# Altium footprint library jonnew.PcbLib: 5 footprints
Each footprint in its own frame and in the unit in brackets; x right, y up, seen from the top. Pads: shape width x height; smd on the part's side, far side on the other; paste and mask are expansions set on the pad; w line width, h text height; cw(c..) or ccw(c..) is an arc to the next point about the centre after c.
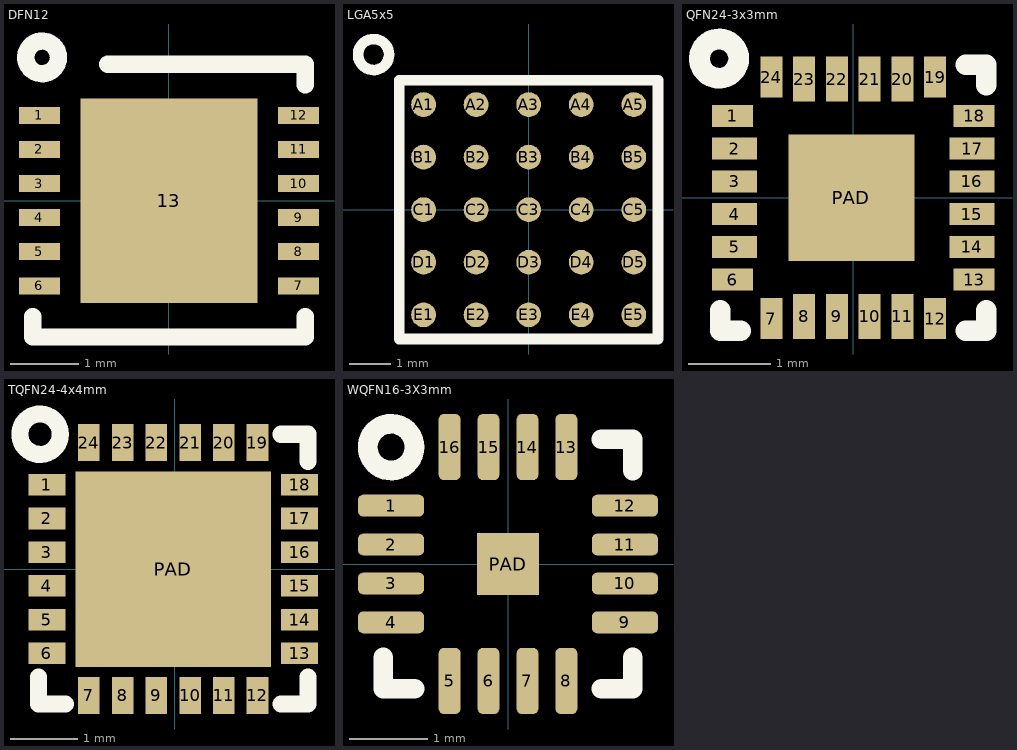
[diagram p0: the footprints below, top view; thin cyan lines are the x and y axes]

## DFN12 [mm]
height 0.8
pads (13):
  rect 0.6x0.25 smd: 1(-1.9,1.25) 2(-1.9,0.75) 3(-1.9,0.25) 4(-1.9,-0.25) 5(-1.9,-0.75) 6(-1.9,-1.25) 7(1.9,-1.25) 8(1.9,-0.75) 9(1.9,-0.25) 10(1.9,0.25) 11(1.9,0.75) 12(1.9,1.25)
  rect 2.6x3 smd: 13(0,0)
Top Overlay:
  circle w0.254: c-1.861,2.1 r0.239
  lines w0.254: -2,-1.7 -2,-2 0,-2 2,-2 2,-1.7 ; -0.9,2 2,2 2,1.7

## LGA5x5 [mm] "LGA Package  25-Lead (6.25mm × 6.25mm × 1.82mm)"
height 1.82
pads (25):
  round 0.6 smd: A1(-2.54,2.54) A2(-1.27,2.54) A3(0,2.54) A4(1.27,2.54) A5(2.54,2.54) B1(-2.54,1.27) B2(-1.27,1.27) B3(0,1.27) B4(1.27,1.27) B5(2.54,1.27) C1(-2.54,0) C2(-1.27,0) C3(0,0) C4(1.27,0) C5(2.54,0) D1(-2.54,-1.27) D2(-1.27,-1.27) D3(0,-1.27) D4(1.27,-1.27) D5(2.54,-1.27) E1(-2.54,-2.54) E2(-1.27,-2.54) E3(0,-2.54) E4(1.27,-2.54) E5(2.54,-2.54)
Top Overlay:
  circle w0.254: c-3.75,3.75 r0.375
  lines w0.254: -3.125,-3.125 3.125,-3.125 3.125,3.125 -3.125,3.125 -3.125,-3.125
3D body: height 1.82, standoff 0, extent -3.125,-3.125 3.125,3.125

## QFN24-3x3mm [mm] "QFN24 3x3mm"
pads (25):
  rect 0.5x0.27 smd: 1(-1.475,1) 6(-1.475,-1) 13(1.475,-1) 18(1.475,1)
  rect 0.55x0.27 smd: 2(-1.45,0.6) 3(-1.45,0.2) 4(-1.45,-0.2) 5(-1.45,-0.6) 14(1.449,-0.6) 15(1.449,-0.2) 16(1.449,0.2) 17(1.45,0.6)
  rect 0.27x0.5 smd: 7(-1,-1.475) 12(1,-1.475) 19(1,1.475) 24(-1,1.475)
  rect 0.27x0.55 smd: 8(-0.6,-1.45) 9(-0.2,-1.45) 10(0.2,-1.45) 11(0.6,-1.45) 20(0.6,1.449) 21(0.2,1.449) 22(-0.2,1.449) 23(-0.6,1.45)
  rect 1.54x1.54 smd: PAD(-0.025,0)
Top Overlay:
  circle w0.254: c-1.639,1.7 r0.239
  lines w0.254: -1.625,-1.375 -1.625,-1.625 -1.375,-1.625 ; 1.375,-1.625 1.625,-1.625 1.625,-1.375 ; 1.375,1.625 1.625,1.625 1.625,1.375
3D body: height 1, standoff 0, extent -1.5,-1.5 1.5,1.5

## TQFN24-4x4mm [mm] "TQFN24, 4x4mm AR"
pads (25):
  rect 0.55x0.32 smd: 1(-1.9,1.25) 2(-1.9,0.75) 3(-1.9,0.25) 4(-1.9,-0.25) 5(-1.9,-0.75) 6(-1.9,-1.25) 13(1.85,-1.25) 14(1.85,-0.75) 15(1.85,-0.25) 16(1.85,0.25) 17(1.85,0.75) 18(1.85,1.25)
  rect 0.32x0.55 smd: 7(-1.275,-1.875) 8(-0.775,-1.875) 9(-0.275,-1.875) 10(0.225,-1.875) 11(0.725,-1.875) 12(1.225,-1.875) 19(1.225,1.875) 20(0.725,1.875) 21(0.225,1.875) 22(-0.275,1.875) 23(-0.775,1.875) 24(-1.275,1.875)
  rect 2.9x2.9 smd: PAD(-0.025,0)
Top Overlay:
  circle w0.254: c-2,2 r0.3
  lines w0.254: -2.025,-1.6 -2.025,-1.7 -2.025,-1.9 -2.025,-2 -1.625,-2 ; 1.575,-2 1.975,-2 1.975,-1.6 ; 1.575,2 1.975,2 1.975,1.6
3D body: height 1, standoff 0, extent -2,-2 2,2

## WQFN16-3X3mm [mm] "WQFN16 3X3mm"
pads (17):
  rrect50% 0.85x0.28 smd: 1(-1.5,0.75) 2(-1.5,0.25) 3(-1.5,-0.25) 4(-1.5,-0.75) 9(1.5,-0.75) 10(1.5,-0.25) 11(1.5,0.25) 12(1.5,0.75)
  rrect50% 0.28x0.85 smd: 5(-0.75,-1.5) 6(-0.25,-1.5) 7(0.25,-1.5) 8(0.75,-1.5) 13(0.75,1.5) 14(0.25,1.5) 15(-0.25,1.5) 16(-0.75,1.5)
  rect 0.8x0.8 smd: PAD(0,0)
Top Overlay:
  circle w0.254: c-1.5,1.5 r0.3
  lines w0.254: -1.6,-1.2 -1.6,-1.6 -1.2,-1.6 ; 1.2,-1.6 1.6,-1.6 1.6,-1.2 ; 1.2,1.6 1.6,1.6 1.6,1.2
3D body: height 0.8, standoff 0, extent -1.6,-1.6 1.6,1.6